# Altium schematic symbol library mechanics.SchLib: 28 symbols
Pins are listed as number, name and electrical type; pins without a type are passive.

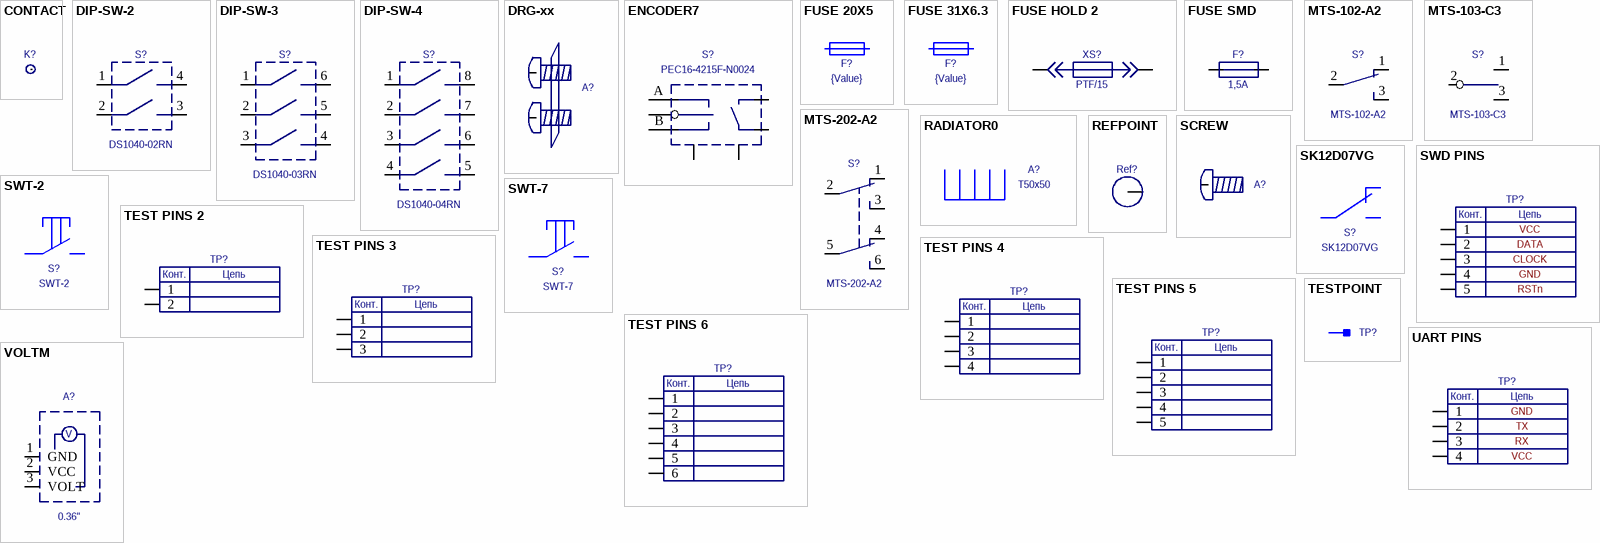
[diagram p0: symbols CONTACT to VOLTM]

## CONTACT
designator K?, comment {Value}  (value not drawn)  (no BOM)
Test point/contact; Value: {Value}
footprint TP10
footprint TP15
footprint TP20
footprint TP30
pins: 1 C

## DIP-SW-2
designator S?, comment DS1040-02RN
DIP switch; Value: DS1040-02RN
footprint DIPSW2
pins: 1, 2, 3, 4

## DIP-SW-3
designator S?, comment DS1040-03RN
DIP switch; Value: DS1040-03RN
footprint DIPSW3
pins: 1, 2, 3, 4, 5, 6

## DIP-SW-4
designator S?, comment DS1040-04RN
DIP switch; Value: DS1040-04RN
footprint DIPSW4
pins: 1, 2, 3, 4, 5, 6, 7, 8

## DRG-xx
designator A?, comment {Value}  (value not drawn)  (no BOM)
DIN rail holder; Value: {Value}
footprint DRG-01 (DIN rail holder 43mm)
footprint DRG-02 (DIN rail holder 81mm)
footprint DRG-03 (DIN rail holder 103mm)
pins: 1, 2

## ENCODER7
designator S?, comment PEC16-4215F-N0024
Switch; Value: PEC16-4215F-N0024
footprint PEC16-4x15 (Encoder)
footprint PEC16-4x20 (Encoder)
footprint PEC11R-4x15 (Encoder)
footprint PEC11R-4x20 (Encoder)
footprint PEC11R-4x25 (Encoder)
pins: A, B, C COM, D, E, G1, G2

## FUSE 20X5
designator F?  value {Value}  (hidden comment: FUSE 20X5)
footprint FUSE5X20
pins: 1, 2, 3 hidden, 4 hidden

## FUSE 31X6.3
designator F?  value {Value}  (hidden comment: FUSE 31X6.3)
footprint CQ205DH
pins: 1, 2, 3 hidden, 4 hidden

## FUSE HOLD 2
designator XS?, comment PTF/15
Fuse holder; Value: PTF/15
footprint PTF/15 (Fuse holder 5x20)
pins: 1, 2

## FUSE SMD
designator F?, comment 1,5А
Fuse; Value: 1,5А
footprint R1206
footprint R0805
footprint R2512
pins: 1, 2

## MTS-102-A2
designator S?
Switch; Value: MTS-102-A2
footprint MTS-103-C3 (Switch)
footprint MTS-102-A2 (Switch)
pins: 1 NON, 2 COM, 3 NOFF

## MTS-103-C3
designator S?
Switch; Value: MTS-103-C3
footprint MTS-103-C3 (Switch)
footprint MTS-102-A2 (Switch)
pins: 1 NON, 2 COM, 3 NOFF

## MTS-202-A2
designator S?
Switch; Value: MTS-202-A2
footprint MTS-202-A2 (Switch)
pins: 1 NON1, 2 COM1, 3 NOFF1, 4 NON2, 5 COM2, 6 NOFF2

## RADIATOR0
designator A?, comment T50x50
Radiator; Value: T50x50
footprint Radiator T50x50

## REFPOINT
designator Ref?, comment {Value}  (value not drawn)  (no BOM)
Ref.point; Value: {Value}
footprint REF10
footprint REF15
footprint REF07
pins: 1 C

## SCREW
designator A?, comment {Value}  (value not drawn)  (no BOM)
Screw; Value: {Value}
footprint SCREW M3 (Screw pad)
pins: 1

## SK12D07VG
designator S?
Slide switch; Value: SK12D07VG
footprint SK12D07VG
pins: 1 NON, 2 COM, 3 NOFF

## SWD PINS
designator TP?, comment 5pin  (value not drawn)  (no BOM)
SWD programmer pins; Value: 5pin
footprint TP16 5x2.54 (5 test pins 2.54mm pitch)
pins: 1, 2, 3, 4, 5
text: Конт.; Цепь; VCC; DATA; CLOCK; GND; RSTn

## SWT-2
designator S?
Value: SWT-2
footprint SWT-2
footprint SWT-2-SMD
pins: 1, 2 1c, 3 2, 4 2c

## SWT-7
designator S?
Button; Value: SWT-7
footprint SWT-7
pins: 1, 2, 3 hidden, 4 hidden

## TEST PINS 2
designator TP?, comment 2pin  (value not drawn)  (no BOM)
Test pins; Value: 2pin
footprint TP16 2x2.54 (2 test pins 2.54mm pitch)
pins: 1, 2
text: Конт.; Цепь

## TEST PINS 3
designator TP?, comment 3pin  (value not drawn)  (no BOM)
Test pins; Value: 3pin
footprint TP16 3x2.54 (3 test pins 2.54mm pitch)
pins: 1, 2, 3
text: Конт.; Цепь

## TEST PINS 4
designator TP?, comment 4pin  (value not drawn)  (no BOM)
Test pins; Value: 4pin
footprint TP16 4x2.54 (4 test pins 2.54mm pitch)
pins: 1, 2, 3, 4
text: Конт.; Цепь

## TEST PINS 5
designator TP?, comment 5pin  (value not drawn)  (no BOM)
Test pins; Value: 5pin
footprint TP16 5x2.54 (5 test pins 2.54mm pitch)
pins: 1, 2, 3, 4, 5
text: Конт.; Цепь

## TEST PINS 6
designator TP?, comment 6pin  (value not drawn)  (no BOM)
Test pins; Value: 6pin
footprint TP16 6x2.54 (6 test pins 2.54mm pitch)
footprint CABLE 6x2.68 (2.68mm pitch)
pins: 1, 2, 3, 4, 5, 6
text: Конт.; Цепь

## TESTPOINT
designator TP?, comment {Value}  (value not drawn)  (no BOM)
Test point; Value: {Value}
footprint TP10
footprint TP15
footprint TP20
footprint TP30
pins: 1 C

## UART PINS
designator TP?, comment 4pin  (value not drawn)  (no BOM)
Test pins; Value: 4pin
footprint TP16 4x2.54 (4 test pins 2.54mm pitch)
pins: 1, 2, 3, 4
text: Конт.; Цепь; GND; TX; RX; VCC

## VOLTM
designator A?, comment 0.36"
Voltmeter; Value: 0.36"
footprint VOLTM 0.36 (Voltmeter 0.36 inch)
pins: 1 GND, 2 VCC, 3 VOLT
text: V